# Altium footprint library RF-BM-2652P2.PcbLib: 1 footprints
Each footprint in its own frame and in the unit in brackets; x right, y up, seen from the top. Pads: shape width x height; smd on the part's side, far side on the other; paste and mask are expansions set on the pad; w line width, h text height; cw(c..) or ccw(c..) is an arc to the next point about the centre after c.
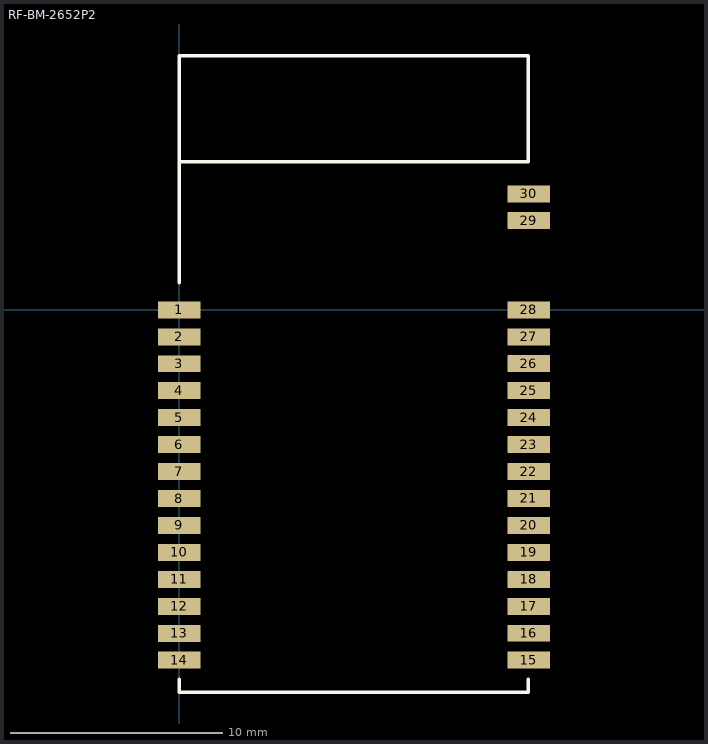
[diagram p0: the footprint, top view; thin cyan lines are the x and y axes]

## RF-BM-2652P2 [mm]
pads (30):
  rect 2x0.8 smd: 1(0,0) 2(0,-1.27) 3(0,-2.54) 4(0,-3.81) 5(0,-5.08) 6(0,-6.35) 7(0,-7.62) 8(0,-8.89) 9(0,-10.16) 10(0,-11.43) 11(0,-12.7) 12(0,-13.97) 13(0,-15.24) 14(0,-16.51) 15(16.462,-16.509) 16(16.462,-15.239) 17(16.462,-13.969) 18(16.462,-12.699) 19(16.462,-11.429) 20(16.462,-10.159) 21(16.462,-8.889) 22(16.462,-7.619) 23(16.462,-6.349) 24(16.462,-5.079) 25(16.462,-3.809) 26(16.462,-2.539) 27(16.462,-1.269) 28(16.462,0.001) 29(16.458,4.199) 30(16.465,5.469)
Top Overlay:
  lines w0.152: 0.001,-17.4 0.001,-18.016 16.447,-18.016 16.447,-17.4 ; 0.001,1.271 0.001,11.97 16.447,11.97 16.447,6.981 0.017,6.981